# EAGLE library part ARJP11A (library ethernet_poe)
RJ45 jack with integrated magnetics and Power over Ethernet support https://www.digikey.com/product-detail/en/abracon-llc/ARJP11A-MBSB-A-B-EMU2/ARJP11A-MBSB-A-B-EMU2-ND/3059454
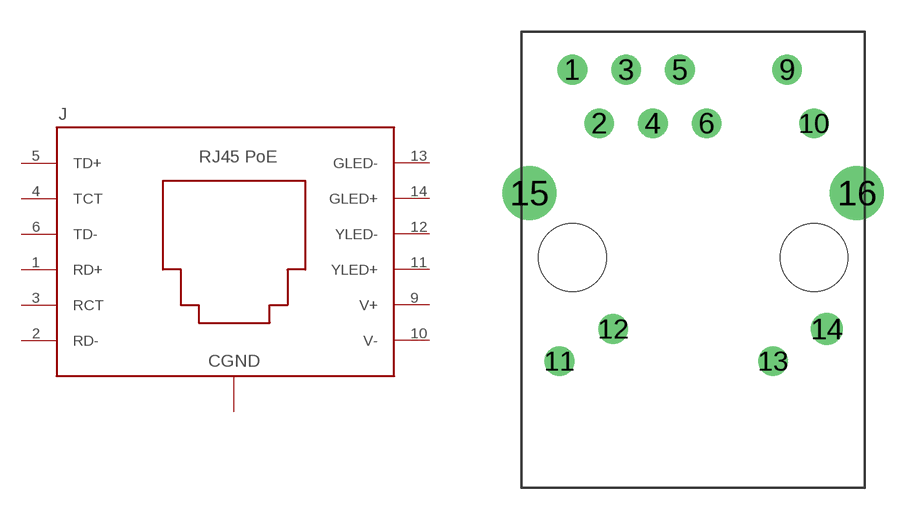
[diagram p1: symbol with the pads of ARJP11A-MBSB-A-B-EMU2; footprint ARJP11A-MBSB-A-B-EMU2]

Designator prefix J

## ARJP11A (DKPN: ARJP11A-MBSB-A-B-EMU2-ND)  [ARJP11A-MBSB-A-B-EMU2]
1  RD+  pas
2  RD-  pas
3  RCT  pas
4  TCT  pas
5  TD+  pas
6  TD-  pas
9  V+  pas
10  V-  pas
11  YLED+  pas
12  YLED-  pas
13  GLED-  pas
14  GLED+  pas
15  CGND  pas
16  CGND  pas

## Footprint ARJP11A-MBSB-A-B-EMU2 (pad centres in mm)
https://www.digikey.com/product-detail/en/abracon-llc/ARJP11A-MBSB-A-B-EMU2/ARJP11A-MBSB-A-B-EMU2-ND/3059454
drill 0.9: 1 -5.969,8.763; 2 -4.699,6.223; 3 -3.429,8.763; 4 -2.159,6.223; 5 -0.889,8.763; 6 0.381,6.223; 9 4.191,8.763; 10 5.461,6.223; 11 -6.579,-5.027; 12 -4.039,-3.507; 13 3.531,-5.027
drill 1: 14 6.071,-3.507
drill 1.7: 15 -8.004,2.923; 16 7.496,2.923
hole 3.2 at 5.461,-0.127
hole 3.2 at -5.969,-0.127